# EAGLE library part 691382000006 (library Eagle_WR-TBL Pluggable Connector (rev21a))
WR-TBL Serie 382 - 2.50 mm Vertical PCB Header KIND PROPERTIES Pitch 2.5 mm MATERIAL PROPERTIES Insulator Material PA66 Insulator Flammability Rating UL94 V-0 Contact Material Copper Alloy Contact Plating Tin Contact Type Stamped GENERAL INFORMATION Operating Temperature -40 up to +105 °C Compliance RoHS ELECTRICAL PROPERTIES IR cULus 12 A Working Voltage [cULus] 300 V (AC) Withstanding Voltage [cULus] 1000 V (AC) Contact Resistance [cULus] 20 mΩ CERTIFICATION cULus Approval E315414 <https://www.we-online.com/catalog/media/o55400v209%20Family_WR-TBL_Serie_382_6913820000xx.jpg> Details see: https://www.we-online.com/catalog/en/TBL_2_50_382_VERTICAL_PCB_HEADER_69138200000X/ Updated by Ella Wu 2019-12-18 2019(C) Wurth Elektronik
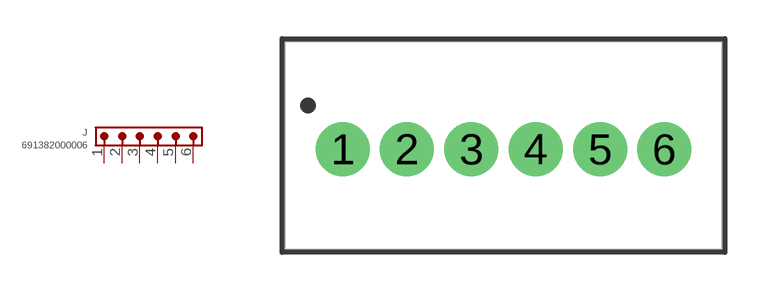
[diagram p34: symbol with the pads of 691382000006; footprint 691382000006]

Designator prefix J

## 691382000006 (DATASHEET-URL: https://www.we-online.com/catalog/datasheet/691382000006.pdf; IR-UL: 12A; MOUNT: THT; PART-NUMBER: 691382000006; PINS: 6; PITCH: 2.5mm; TYPE: Vertical; VALUE: 691382000006; WORKING-VOLTAGE-UL: 300V (AC))  [691382000006]
1  1  pas
2  2  pas
3  3  pas
4  4  pas
5  5  pas
6  6  pas

## Footprint 691382000006 (pad centres in mm)
WR-TBL Serie 382 - 2.50 mm Vertical PCB Header Max Height = 10.1mm , Pitch 2.5mm , 6pins
drill 1.4: 1 -6.25,0; 2 -3.75,0; 3 -1.25,0; 4 1.25,0; 5 3.75,0; 6 6.25,0